# Altium footprint library hc05.PcbLib: 2 footprints
Each footprint in its own frame and in the unit in brackets; x right, y up, seen from the top. Pads: shape width x height; smd on the part's side, far side on the other; paste and mask are expansions set on the pad; w line width, h text height; cw(c..) or ccw(c..) is an arc to the next point about the centre after c.
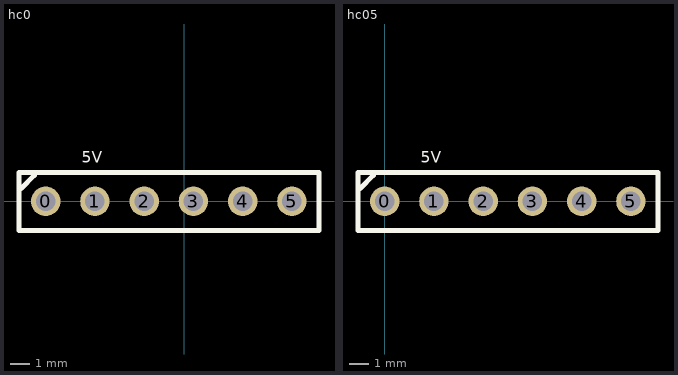
[diagram p0: the footprints below, top view; thin cyan lines are the x and y axes]

## hc0 [mil]
pads (6):
  round 60 hole 39.37: 0(-281,0) 1(-181,0) 2(-81,0) 3(19,0) 4(119,0) 5(219,0)
Top Overlay:
  lines w10: -335,26 -331,26 -304,53 ; 137.31,59.06 216.05,59.06 ; -335.13,-59.06 -335.13,59.06 274,59.06 274,-59.06 -335.13,-59.06
  text "5V" at -208,70 h39.37
3D body "HC2.STEP": height 1480.31, standoff 0, extent -339.06,-178.79 279.06,-20

## hc05 [mil]
pads (6):
  round 60 hole 39.37: 0(0,0) 1(100,0) 2(200,0) 3(300,0) 4(400,0) 5(500,0)
Top Overlay:
  lines w10: -54,26 -50,26 -23,53 ; 418.31,59.06 497.05,59.06 ; -54.13,-59.06 -54.13,59.06 555,59.06 555,-59.06 -54.13,-59.06
  text "5V" at 73,70 h39.37
3D body "HC2.STEP": height 1480.31, standoff 0, extent -49.06,-190 569.06,-31.21